# Altium footprint library Wrist Watch.PcbLib: 31 footprints (part 1 of 2)
Each footprint in its own frame and in the unit in brackets; x right, y up, seen from the top. Pads: shape width x height; smd on the part's side, far side on the other; paste and mask are expansions set on the pad; w line width, h text height; cw(c..) or ccw(c..) is an arc to the next point about the centre after c.
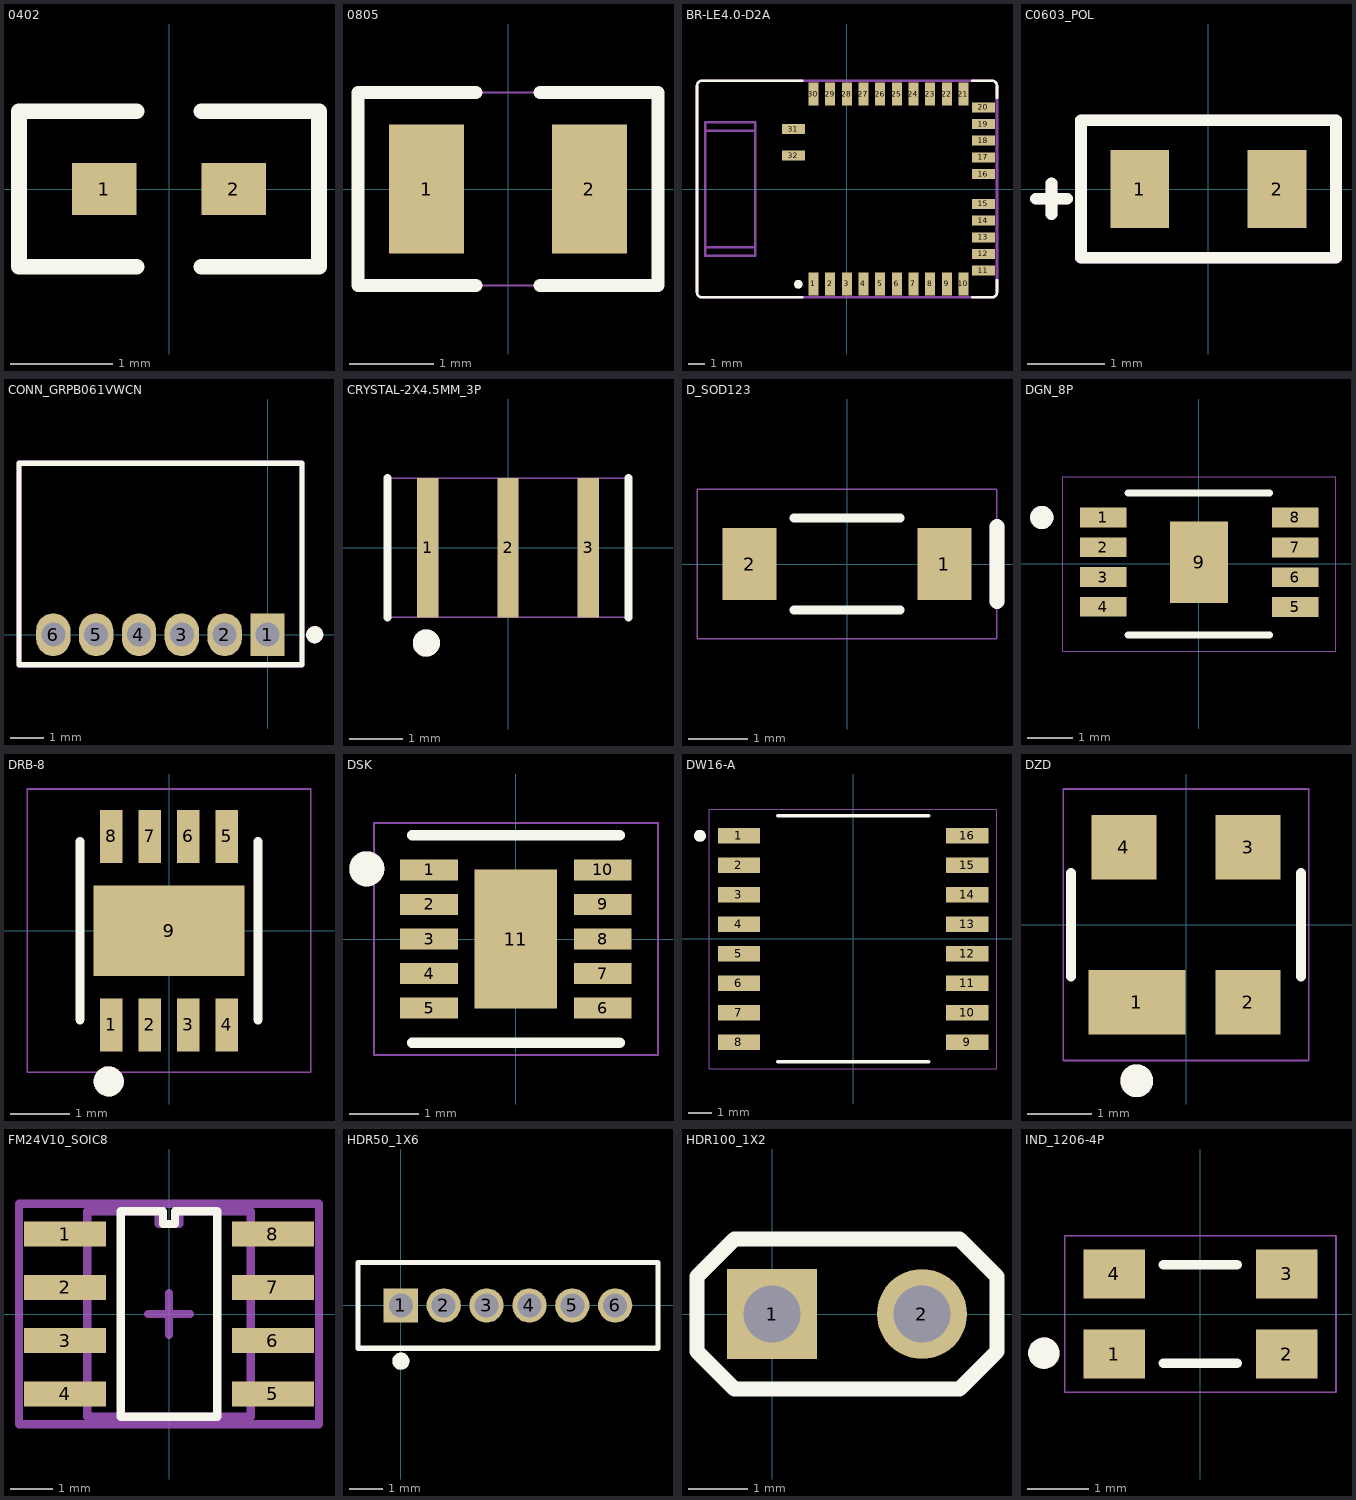
[diagram p0: the footprints below, top view; thin cyan lines are the x and y axes]

## 0402 [mil]
pads (2):
  rect 25x20 smd: 1(-25,0) 2(25,0)
Top Overlay:
  lines w6: -12.5,-30 -58,-30 -58,30 -12.5,30 ; 12.5,-30 58,-30 58,30 12.5,30
  text ".Designator" at -80,50 h35

## 0805 [mil]
pads (2):
  rect 35x60 smd: 1(-38,0) 2(38,0)
Top Overlay:
  lines w6: -15,-45 -70,-45 -70,45 -15,45 ; 15,-45 70,-45 70,45 15,45
  text ".Designator" at -160,65 h35
Mechanical 1:
  lines w1: -70,-45 70,-45 70,45 -70,45 -70,-45

## BR-LE4.0-D2A [mm]
pads (32):
  rect 0.6x1.4 smd: 1(-2.01,-5.7) 2(-1.01,-5.7) 3(-0.01,-5.7) 4(0.99,-5.7) 5(1.99,-5.7) 6(2.99,-5.7) 7(3.99,-5.7) 8(4.99,-5.7) 9(5.99,-5.7) 10(6.99,-5.7) 21(6.99,5.7) 22(5.99,5.7) 23(4.99,5.7) 24(3.99,5.7) 25(2.99,5.7) 26(1.99,5.7) 27(0.99,5.7) 28(-0.01,5.7) 29(-1.01,5.7) 30(-2.01,5.7)
  rect 1.4x0.6 smd: 11(8.19,-4.9) 12(8.19,-3.9) 13(8.19,-2.9) 14(8.19,-1.9) 15(8.19,-0.9) 16(8.19,0.9) 17(8.19,1.9) 18(8.19,2.9) 19(8.19,3.9) 20(8.19,4.9) 31(-3.21,3.6) 32(-3.21,2)
Top Overlay:
  circle w0.254: c-2.921,-5.715 r0.127
  lines w0.152: -9,-6.19 -9,6.2 cw(c-8.7,6.2) -8.689,6.5 -2.69,6.5 ; -9,-6.19 ccw(c-8.7,-6.2) -8.7,-6.5 -2.7,-6.5 ; 7.505,-6.5 8.679,-6.5 ; 7.516,6.5 8.69,6.5 cw(c8.7,6.2) 9,6.2 9,5.478 ; 8.7,-6.5 ccw(c8.7,-6.2) 9,-6.19 9,-5.478
  text ".Designator" at -3.556,7.366 h0.89
Mechanical 1:
  circle w0.254: c-2.921,-5.715 r0.127
  lines w0.028: -9,6.2 cw(c-8.7,6.2) -8.689,6.5 ; -9,-6.19 ccw(c-8.7,-6.2) -8.7,-6.5 ; 8.69,6.5 cw(c8.7,6.2) 9,6.2 ; 8.7,-6.5 ccw(c8.7,-6.2) 9,-6.19
  lines w0.152: -9,-6.19 -9,6.2 ; -8.7,-6.5 8.7,-6.5 ; -8.69,6.5 8.69,6.5 ; -8.5,-3.5 -5.5,-3.5 ; -8.5,3.5 -5.5,3.5 ; 9,-6.19 9,6.2 ; -8.5,-4 -8.5,4 -5.5,4 -5.5,-4 -8.5,-4

## C0603_POL [mil]
pads (2):
  rect 30x40 smd: 1(-35,0) 2(35,0)
Top Overlay:
  lines w6: -87.87,-5 -72.12,-5 ; -80,-12.88 -80,2.88 ; -65,-35 -65,35 65,35 65,-35 -65,-35
  text ".Designator" at -165,60 h35
Mechanical 1:
  lines w6: -87.87,-5 -72.12,-5 ; -80,-12.88 -80,2.88 ; -65,-35 65,-35 65,35 -65,35 -65,-35

## CONN_GRPB061VWCN [mil]
pads (6):
  rect 40x50 hole 28: 1(0,0)
  oval 40x50 hole 28: 2(-50,0) 3(-100,0) 4(-150,0) 5(-200,0) 6(-250,0)
Top Overlay:
  circle w10: c55,0 r5
  lines w6: -290,-35 40,-35 40,200 -290,200 -290,-35
  text ".Designator" at -300,220 h35
Mechanical 1:
  circle w10: c55,0 r5
  lines w6: -290,-35 -290,200 40,200 40,-35 -290,-35

## CRYSTAL-2X4.5MM_3P [mm]
pads (3):
  rect 0.4x2.6 smd: 1(-1.5,0) 2(0,0) 3(1.5,0)
Top Overlay:
  circle w0.254: c-1.524,-1.778 r0.127
  lines w0.152: -2.25,-1.3 -2.25,1.3 ; 2.25,-1.3 2.25,1.3
  text ".Designator" at -4.445,2.032 h0.89
Mechanical 1:
  circle w0.254: c-1.524,-1.778 r0.127
  lines w0.028: -2.25,-1.3 2.25,-1.3 2.25,1.3 -2.25,1.3 -2.25,-1.3
Mechanical 12:
  lines w0.028: -2.25,-1.143 -2.25,1.143 ; 2.25,-1.143 2.25,1.143

## D_SOD123 [mil]
pads (2):
  rect 36x48 smd: 1(65,0) 2(-65,0)
Top Overlay:
  lines w6: -35.43,-30.51 35.43,-30.51 ; -35.43,30.51 35.43,30.51
  lines w10: 100,-25 100,25
  text ".Designator" at -175,70 h35
Mechanical 1:
  lines w1: -100,-50 100,-50 100,50 -100,50 -100,-50
  lines w10: 100,-25 100,25

## DGN_8P [mil]
pads (9):
  rect 40x17 smd: 1(-82.1,40) 2(-82.1,14.4) 3(-82.1,-11.2) 4(-82.1,-36.8) 5(82.9,-36.9) 6(82.9,-11.3) 7(82.9,14.3) 8(82.9,40)
  rect 50x70 smd: 9(0.2,1.4)
Top Overlay:
  circle w10: c-135,40 r5
  lines w6: -61.02,-61.02 61.02,-61.02 ; -61.02,61.02 61.02,61.02
  text ".Designator" at -180,85 h35
Mechanical 1:
  circle w10: c-135,40 r5
  lines w1: -117,-75 -117,75 118,75 118,-75 -117,-75

## DRB-8 [mil]
pads (9):
  rect 15x35 smd: 1(-38.4,-62.5) 2(-12.8,-62.5) 3(12.8,-62.5) 4(38.4,-62.5) 5(38.4,62.5) 6(12.8,62.5) 7(-12.8,62.5) 8(-38.4,62.5)
  rect 100x60 smd: 9(0,0)
Top Overlay:
  circle w10: c-40,-100 r5
  lines w6: -59.06,-59.06 -59.06,59.06 ; 59.06,-59.06 59.06,59.06
  text ".Designator" at -170,115 h35
Mechanical 1:
  circle w10: c-40,-100 r5
  lines w1.1: -94,-94 94,-94 94,94 -94,94 -94,-94

## DSK [mil]
pads (11):
  rect 33x12 smd: 1(-49.5,39.4) 2(-49.5,19.7) 3(-49.5,0) 4(-49.5,-19.7) 5(-49.5,-39.4) 6(49.5,-39.4) 7(49.5,-19.7) 8(49.5,0) 9(49.5,19.7) 10(49.5,39.4)
  rect 47x79 smd: 11(0,0)
Top Overlay:
  circle w10: c-85,40 r5
  lines w6: -59.06,-59.06 59.06,-59.06 ; -59.06,59.06 59.06,59.06
  text ".Designator" at -195,85 h35
Mechanical 1:
  circle w10: c-85,40 r5
  lines w1.1: -81,-66 -81,66 81,66 81,-66 -81,-66

## DW16-A [mil]
pads (16):
  rect 72.05x26 smd: 1(-193.73,174.9) 2(-193.73,124.9) 3(-193.73,74.9) 4(-193.73,24.9) 5(-193.73,-25.1) 6(-193.73,-75.1) 7(-193.73,-125.1) 8(-193.73,-175.1) 9(193.54,-175.1) 10(193.54,-125.1) 11(193.54,-75.1) 12(193.54,-25.1) 13(193.54,24.9) 14(193.54,74.9) 15(193.54,124.9) 16(193.54,174.9)
Top Overlay:
  circle w10: c-260,175 r5
  lines w6: -127.95,-208.66 127.95,-208.66 ; -127.95,208.66 127.95,208.66
  text ".Designator" at -165,235 h35
Mechanical 1:
  circle w10: c-260,175 r5
  lines w1: -244.4,-220.1 -244.4,219.9 244.1,219.9 244.1,-220.1 -244.4,-220.1

## DZD [mm]
pads (4):
  rect 1.5x1 smd: 1(-0.76,-1.2)
  rect 1x1 smd: 2(0.96,-1.2) 3(0.96,1.2) 4(-0.96,1.2)
Top Overlay:
  circle w0.254: c-0.762,-2.413 r0.127
  lines w0.152: -1.778,-0.8 -1.778,0.8 ; 1.778,-0.8 1.778,0.8
  text ".Designator" at -4.318,2.667 h0.89
Mechanical 1:
  circle w0.254: c-0.762,-2.413 r0.127
  lines w0.028: -1.9,-2.1 -1.9,2.1 1.9,2.1 1.9,-2.1 -1.9,-2.1

## FM24V10_SOIC8 [mm]
pads (8):
  rect 1.95x0.6 smd: 1(-2.475,1.905) 2(-2.475,0.635) 3(-2.475,-0.635) 4(-2.475,-1.905) 5(2.475,-1.905) 6(2.475,-0.635) 7(2.475,0.635) 8(2.475,1.905)
Top Overlay:
  lines w0.2: -1.15,-2.45 -1.15,2.45 -0.144,2.45 -0.144,2.144 0.144,2.144 0.144,2.45 1.15,2.45 1.15,-2.45 -1.15,-2.45
  text ".Designator" at -4.445,3.175 h0.89
Mechanical 1:
  lines w0.2: -1.95,-2.45 -1.95,2.45 -0.244,2.45 -0.244,2.144 0.244,2.144 0.244,2.45 1.95,2.45 1.95,-2.45 -1.95,-2.45
Mechanical 16:
  lines w0.2: -0.5,0 0,0 ; 0,-0.5 0,0 ; 0,0.5 0,0 ; 0.5,0 0,0 ; -3.575,-2.625 -3.575,2.625 3.575,2.625 3.575,-2.625 -3.575,-2.625

## HDR50_1X6 [mil]
pads (6):
  rect 40x40 hole 28: 1(0,0)
  round 40 hole 28: 2(50,0) 3(100,0) 4(150,0) 5(200,0) 6(250,0)
Top Overlay:
  circle w10: c0,-65 r5
  lines w6: -50,-50 300,-50 300,50 -50,50 -50,-50
  text ".Designator" at -55,75 h35
Mechanical 1:
  circle w10: c0,-65 r5
  lines w1: -50,-50 300,-50 ; -50,50 300,50
  lines w1.1: -50,-50 -50,50 ; 300,-50 300,50

## HDR100_1X2 [mil]
pads (2):
  rect 60x60 hole 38: 1(0,0)
  round 60 hole 38: 2(100,0)
Top Overlay:
  lines w10: -50,-25 -25,-50 125,-50 150,-25 150,25 125,50 -25,50 -50,25 -50,-25
  text ".Designator" at -135,75 h35
Bottom Overlay:
  text "J5" at -15,-10 h20
Mechanical 1:
  lines w1: -50,-25 -50,25 -25,50 125,50 150,25 150,-25 125,-50 -25,-50 -50,-25

## IND_1206-4P [mm]
pads (4):
  rect 1x0.8 smd: 1(-1.4,-0.65) 2(1.4,-0.65) 3(1.4,0.65) 4(-1.4,0.65)
Top Overlay:
  circle w0.254: c-2.54,-0.635 r0.127
  lines w0.152: -0.6,-0.8 0.6,-0.8 ; -0.6,0.8 0.6,0.8
  text ".Designator" at -4.318,1.778 h0.89
Mechanical 1:
  circle w0.254: c-2.54,-0.635 r0.127
  lines w0.025: -2.2,-1.27 -2.2,1.27 2.2,1.27 2.2,-1.27 -2.2,-1.27